# EAGLE library part AR1021 (library atmel-samd)
Microchip AR1021 Resitive Touch Screen Driver
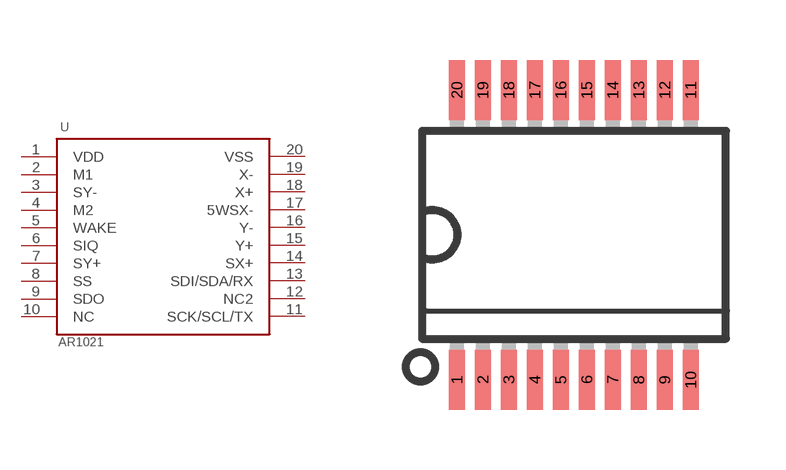
[diagram p6: symbol with the pads of SSOP20; footprint SSOP20]

Designator prefix U

## AR1021  [SSOP20]
1  VDD
2  M1
3  SY-
4  M2
5  WAKE
6  SIQ
7  SY+
8  SS
9  SDO
10  NC
11  SCK/SCL/TX
12  NC2
13  SDI/SDA/RX
14  SX+
15  Y+
16  Y-
17  5WSX-
18  X+
19  X-
20  VSS

## Footprint SSOP20 (pad centres in mm)
Shrink Small Outline Package package type SS
smd 0.4 x 1.5: 1 -2.925,-3.625; 2 -2.275,-3.625; 3 -1.625,-3.625; 4 -0.975,-3.625; 5 -0.325,-3.625; 6 0.325,-3.625; 7 0.975,-3.625; 8 1.625,-3.625; 9 2.275,-3.625; 10 2.925,-3.625; 11 2.925,3.625; 12 2.275,3.625; 13 1.625,3.625; 14 0.975,3.625; 15 0.325,3.625; 16 -0.325,3.625; 17 -0.975,3.625; 18 -1.625,3.625; 19 -2.275,3.625; 20 -2.925,3.625